# Altium footprint library AVR Board 4.0 Footprint Lib.PcbLib: 8 footprints
Each footprint in its own frame and in the unit in brackets; x right, y up, seen from the top. Pads: shape width x height; smd on the part's side, far side on the other; paste and mask are expansions set on the pad; w line width, h text height; cw(c..) or ccw(c..) is an arc to the next point about the centre after c.
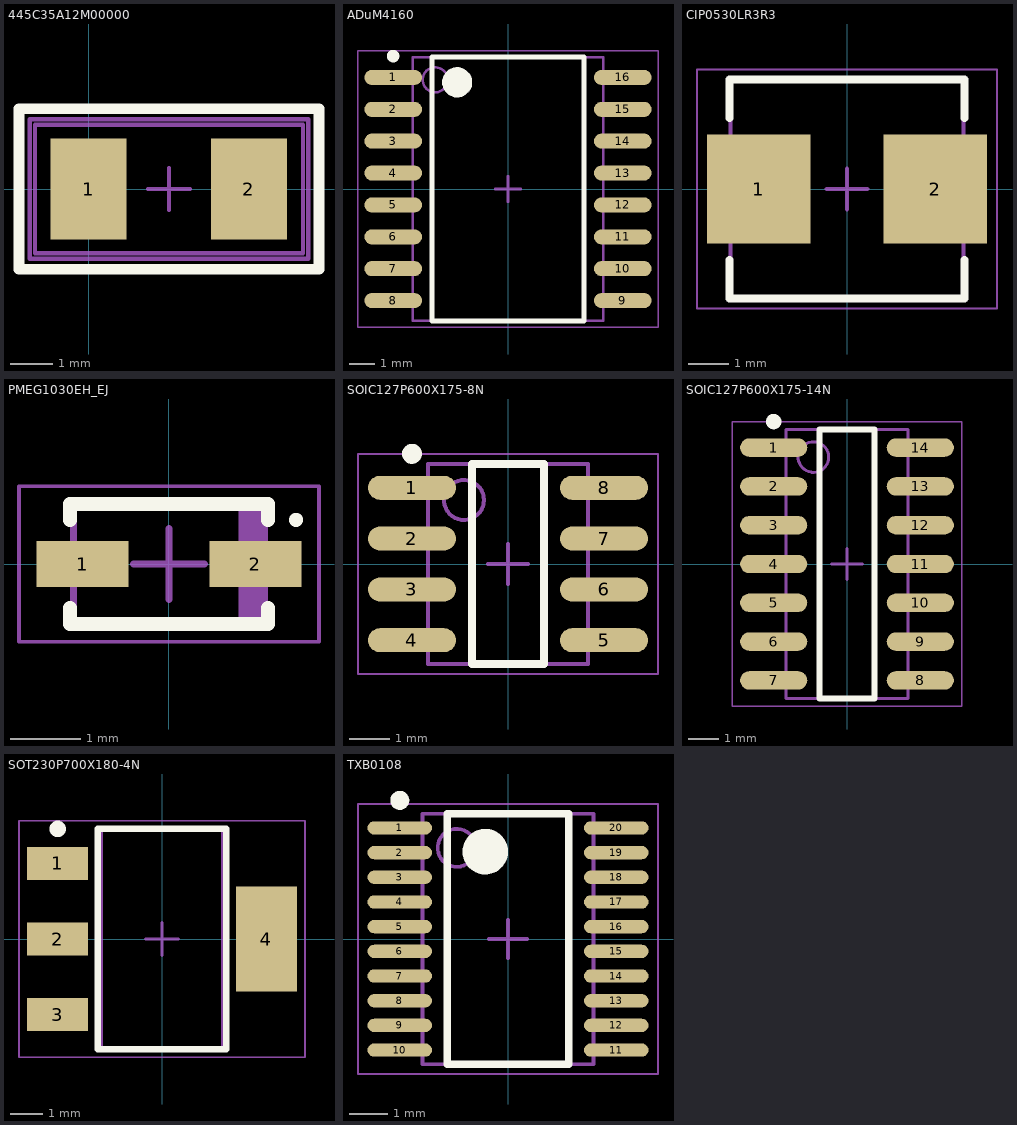
[diagram p0: the footprints below, top view; thin cyan lines are the x and y axes]

## 445C35A12M00000 [mm] "Crystal Oscillator"
height 1.35
pads (2):
  rect 1.8x2.4 smd: 1(0,0) 2(3.8,0)
Top Overlay:
  lines w0.254: -1.651,-1.905 -1.651,1.905 5.461,1.905 5.461,-1.905 -1.651,-1.905
Mechanical 13:
  lines w0.1: -1.27,-1.524 5.08,-1.524 5.08,1.524 -1.27,1.524 -1.27,-1.524
Mechanical 15:
  lines w0.1: 1.405,0 2.405,0 ; 1.905,-0.5 1.905,0.5 ; -1.397,-1.651 -1.397,1.651 5.207,1.651 5.207,-1.651 -1.397,-1.651
3D body: height 1, standoff 0, extent -1.27,-1.524 5.08,1.524

## ADuM4160 [mm] "SOIC, 16-Leads, Body 10.30x7.50mm, Pitch 1.27mm, IPC Medium Density"
height 2.65
pads (16):
  oval 2.3x0.6 smd: 1(-4.575,4.445) 2(-4.575,3.175) 3(-4.575,1.905) 4(-4.575,0.635) 5(-4.575,-0.635) 6(-4.575,-1.905) 7(-4.575,-3.175) 8(-4.575,-4.445) 9(4.575,-4.445) 10(4.575,-3.175) 11(4.575,-1.905) 12(4.575,-0.635) 13(4.575,0.635) 14(4.575,1.905) 15(4.575,3.175) 16(4.575,4.445)
Top Overlay:
  circle w0.25: c-4.575,5.295 r0.125
  circle w0.6: c-2.025,4.25 r0.3
  lines w0.2: -3.025,-5.25 -3.025,5.25 3.025,5.25 3.025,-5.25 -3.025,-5.25
Mechanical 13:
  circle w0.1: c-2.9,4.35 r0.5
  lines w0.1: -3.8,-5.25 -3.8,5.25 3.8,5.25 3.8,-5.25 -3.8,-5.25
Mechanical 15:
  lines w0.05: -5.975,-5.5 -5.975,5.5 5.975,5.5 5.975,-5.5 -5.975,-5.5
  lines w0.1: -0.5,0 0.5,0 ; 0,-0.5 0,0.5
3D body: height 2.65, standoff 0.1, extent -3.8,-5.25 3.8,5.25

## CIP0530LR3R3 [mm] "Precision Wire Wound Inductor, 2-Leads, Body 5.58x5.30mm, IPC Medium Density"
height 2.29
pads (2):
  rect 2.55x2.7 smd: 1(-2.175,0) 2(2.175,0)
Top Overlay:
  lines w0.2: -2.9,-1.75 -2.9,-2.7 2.9,-2.7 2.9,-1.75 ; -2.9,1.75 -2.9,2.7 2.9,2.7 2.9,1.75
Mechanical 13:
  lines w0.1: -2.875,-2.7 -2.875,2.7 2.875,2.7 2.875,-2.7 -2.875,-2.7
Mechanical 15:
  lines w0.05: -3.7,-2.95 -3.7,2.95 3.7,2.95 3.7,-2.95 -3.7,-2.95
  lines w0.1: -0.5,0 0.5,0 ; 0,-0.5 0,0.5
3D body: height 2.29, standoff 0, extent -2.875,-2.7 2.875,2.7

## PMEG1030EH_EJ [mm] "Molded Diode, 2-Leads, Body 2.60x1.60mm, IPC Medium Density"
height 1.2
pads (2):
  rect 1.3x0.65 smd: 1(-1.225,0) 2(1.225,0)
Top Overlay:
  circle w0.1: c1.8,0.625 r0.05
  lines w0.2: -1.4,-0.625 -1.4,-0.85 1.4,-0.85 1.4,-0.625 ; -1.4,0.625 -1.4,0.85 1.4,0.85 1.4,0.625
Mechanical 13:
  rectangle: 0.987,-0.85 1.35,0.85
  lines w0.1: -1.35,-0.85 -1.35,0.85 1.35,0.85 1.35,-0.85 -1.35,-0.85
Mechanical 15:
  lines w0.05: -2.125,-1.1 -2.125,1.1 2.125,1.1 2.125,-1.1 -2.125,-1.1
  lines w0.1: -0.5,0 0.5,0 ; 0,-0.5 0,0.5
3D body: height 1.2, standoff 0, extent -1.35,-0.85 1.35,0.85

## SOIC127P600X175-8N [mm] "SOIC, 8-Leads, Body 4.90x3.90mm, Pitch 1.27mm, IPC Medium Density"
height 1.75
pads (8):
  oval 2.2x0.6 smd: 1(-2.4,1.905) 2(-2.4,0.635) 3(-2.4,-0.635) 4(-2.4,-1.905) 5(2.4,-1.905) 6(2.4,-0.635) 7(2.4,0.635) 8(2.4,1.905)
Top Overlay:
  circle w0.25: c-2.4,2.755 r0.125
  lines w0.2: -0.9,-2.5 -0.9,2.5 0.9,2.5 0.9,-2.5 -0.9,-2.5
Mechanical 13:
  circle w0.1: c-1.1,1.6 r0.5
  lines w0.1: -2,-2.5 -2,2.5 2,2.5 2,-2.5 -2,-2.5
Mechanical 15:
  lines w0.05: -3.75,-2.75 -3.75,2.75 3.75,2.75 3.75,-2.75 -3.75,-2.75
  lines w0.1: -0.5,0 0.5,0 ; 0,-0.5 0,0.5
3D body: height 1.75, standoff 0.1, extent -2,-2.5 2,2.5

## SOIC127P600X175-14N [mm] "SOIC, 14-Leads, Body 8.65x3.90mm, Pitch 1.27mm, IPC Medium Density"
height 1.75
pads (14):
  oval 2.2x0.6 smd: 1(-2.4,3.81) 2(-2.4,2.54) 3(-2.4,1.27) 4(-2.4,0) 5(-2.4,-1.27) 6(-2.4,-2.54) 7(-2.4,-3.81) 8(2.4,-3.81) 9(2.4,-2.54) 10(2.4,-1.27) 11(2.4,0) 12(2.4,1.27) 13(2.4,2.54) 14(2.4,3.81)
Top Overlay:
  circle w0.25: c-2.4,4.66 r0.125
  lines w0.2: -0.9,-4.4 -0.9,4.4 0.9,4.4 0.9,-4.4 -0.9,-4.4
Mechanical 13:
  circle w0.1: c-1.1,3.5 r0.5
  lines w0.1: -2,-4.4 -2,4.4 2,4.4 2,-4.4 -2,-4.4
Mechanical 15:
  lines w0.05: -3.75,-4.65 -3.75,4.65 3.75,4.65 3.75,-4.65 -3.75,-4.65
  lines w0.1: -0.5,0 0.5,0 ; 0,-0.5 0,0.5
3D body: height 1.75, standoff 0.1, extent -2,-4.4 2,4.4

## SOT230P700X180-4N [mm] "SOT223, 4-Leads, Body 6.50x7.00mm (avg), Pitch 2.30mm, IPC Medium Density"
height 1.8
pads (4):
  rect 1.85x1 smd: 1(-3.175,2.3) 2(-3.175,0) 3(-3.175,-2.3)
  rect 1.85x3.2 smd: 4(3.175,0)
Top Overlay:
  circle w0.25: c-3.175,3.35 r0.125
  lines w0.2: -1.95,-3.35 -1.95,3.35 1.95,3.35 1.95,-3.35 -1.95,-3.35
Mechanical 13:
  lines w0.1: -1.85,-3.35 -1.85,3.35 1.85,3.35 1.85,-3.35 -1.85,-3.35
Mechanical 15:
  lines w0.05: -4.35,-3.6 -4.35,3.6 4.35,3.6 4.35,-3.6 -4.35,-3.6
  lines w0.1: -0.5,0 0.5,0 ; 0,-0.5 0,0.5
3D body: height 1.8, standoff 0.06, extent -1.85,-3.35 1.85,3.35

## TXB0108 [mm] "TSOP, 20-Leads, Body 6.50x4.40mm, Pitch 0.65mm, IPC Medium Density"
height 1.2
pads (20):
  oval 1.7x0.35 smd: 1(-2.85,2.925) 2(-2.85,2.275) 3(-2.85,1.625) 4(-2.85,0.975) 5(-2.85,0.325) 6(-2.85,-0.325) 7(-2.85,-0.975) 8(-2.85,-1.625) 9(-2.85,-2.275) 10(-2.85,-2.925) 11(2.85,-2.925) 12(2.85,-2.275) 13(2.85,-1.625) 14(2.85,-0.975) 15(2.85,-0.325) 16(2.85,0.325) 17(2.85,0.975) 18(2.85,1.625) 19(2.85,2.275) 20(2.85,2.925)
Top Overlay:
  circle w0.6: c-0.6,2.3 r0.3
  circle w0.25: c-2.85,3.65 r0.125
  lines w0.2: -1.6,-3.3 1.6,-3.3 1.6,3.3 -1.6,3.3 -1.6,-3.3
Mechanical 13:
  circle w0.1: c-1.35,2.4 r0.5
  lines w0.1: -2.25,-3.3 2.25,-3.3 2.25,3.3 -2.25,3.3 -2.25,-3.3
Mechanical 15:
  lines w0.05: -3.95,-3.55 3.95,-3.55 3.95,3.55 -3.95,3.55 -3.95,-3.55
  lines w0.1: -0.5,0 0.5,0 ; 0,-0.5 0,0.5
3D body: height 1.2, standoff 0.05, extent -2.25,-3.3 2.25,3.3